# Altium footprint library ARCOM_Capacitors.PcbLib: 37 footprints (part 1 of 3)
Each footprint in its own frame and in the unit in brackets; x right, y up, seen from the top. Pads: shape width x height; smd on the part's side, far side on the other; paste and mask are expansions set on the pad; w line width, h text height; cw(c..) or ccw(c..) is an arc to the next point about the centre after c.
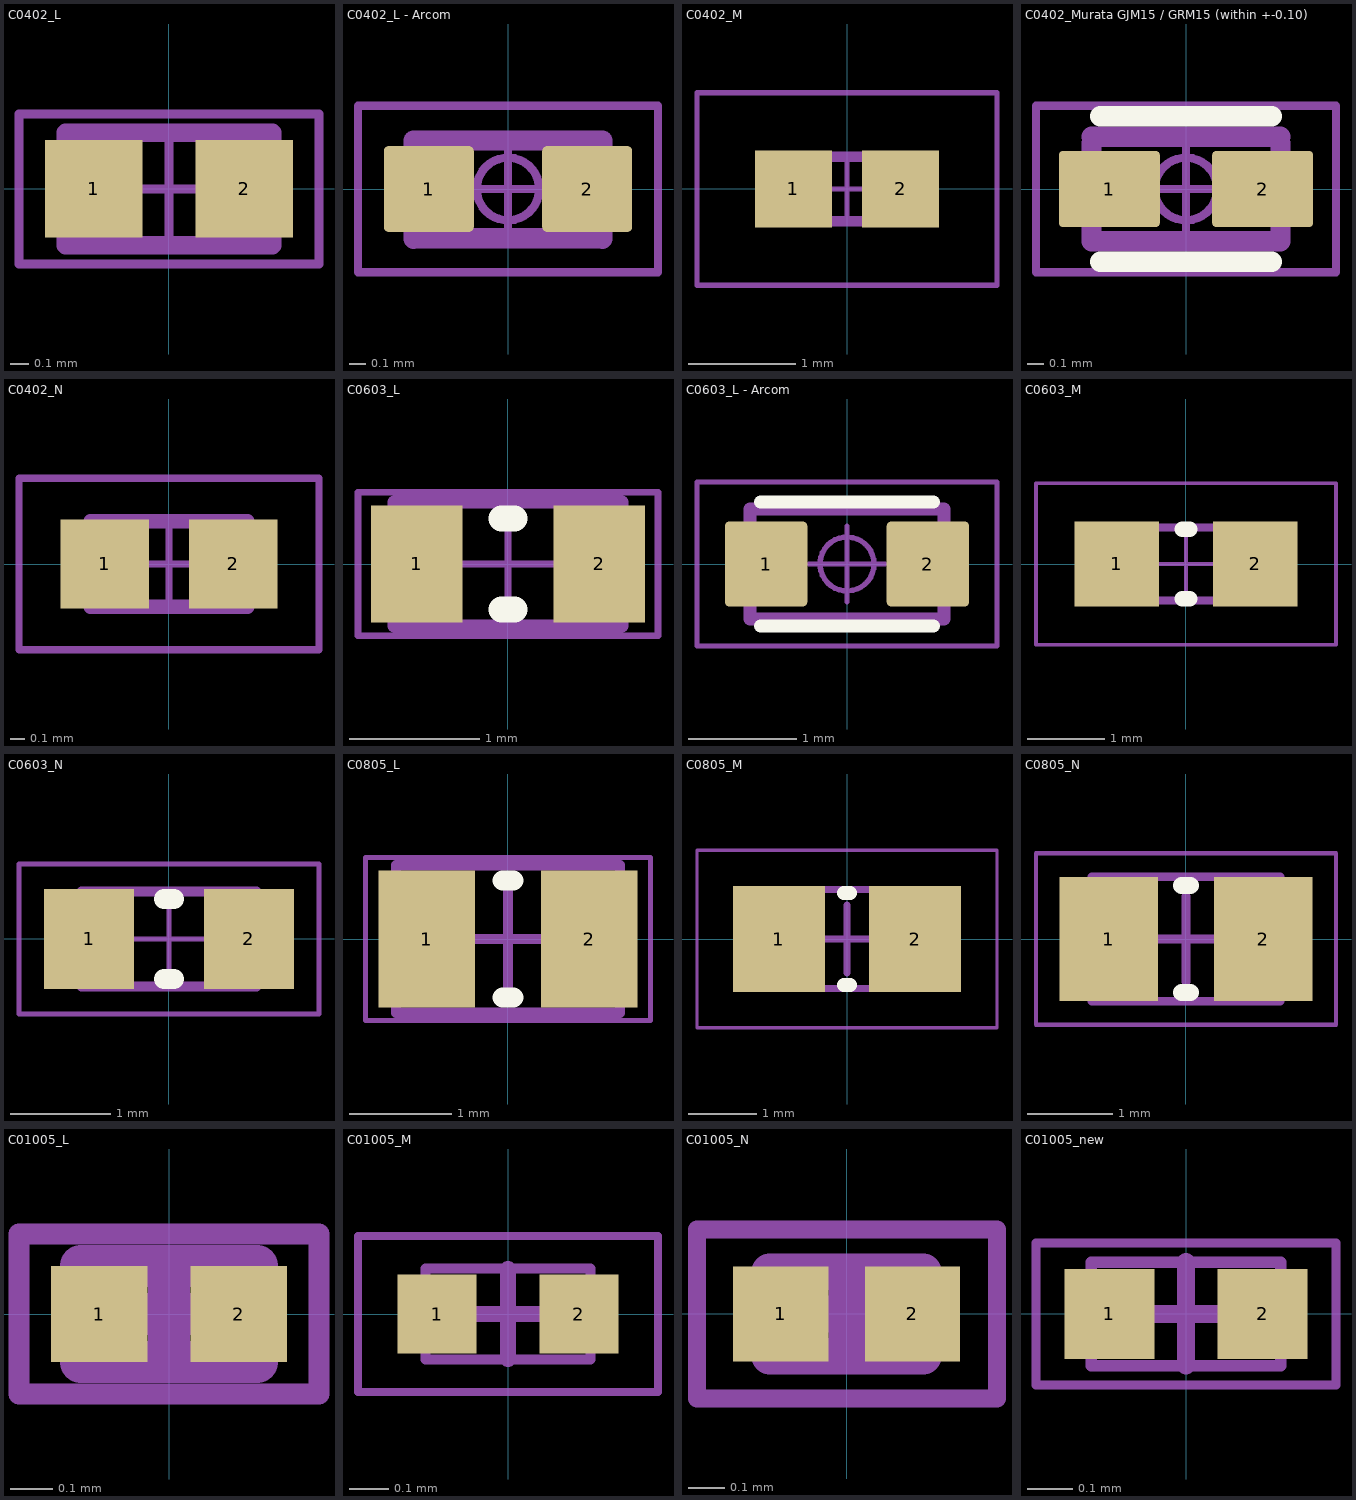
[diagram p0: the footprints below, top view; thin cyan lines are the x and y axes]

## C0402_L [mm] "Chip Capacitor, Body 1.0x0.5mm, Height 0.6mm, IPC High Density"
height 0.7
pads (2):
  rect 0.52x0.52 smd: 1(-0.4,0) 2(0.4,0)
Mechanical 13:
  lines w0.1: -0.55,-0.3 0.55,-0.3 0.55,0.3 -0.55,0.3 -0.55,-0.3
Mechanical 15:
  lines w0.05: -0.3,0 0.3,0 ; 0,-0.3 0,0.3 ; -0.8,-0.4 0.8,-0.4 0.8,0.4 -0.8,0.4 -0.8,-0.4
3D body: height 0.6, standoff 0, extent 0.3,-0.3 0.55,0.3
3D body: height 0.6, standoff 0, extent -0.55,-0.3 -0.3,0.3
3D body: height 0.6, standoff 0, extent -0.3,-0.3 0.3,0.3

## C0402_L - Arcom [mil] "Chip Capacitor, Body 1.0x0.5mm, Height 0.6mm, IPC High Density"
height 27.56
pads (2):
  rrect10% 21x20 smd: 1(-18.5,0) 2(18.5,0)
Mechanical 11:
  lines w4.72: -22.05,-11.6 -22.05,11.35 22.05,11.35 22.05,-11.6 ; -22.05,-11.5 22.05,-11.5
Mechanical 15:
  circle w1.97: c0,0 r7.31
  lines w1.97: -9.74,0 9.74,0 ; 0,-9.74 0,9.74 ; -35.04,-19.49 35.04,-19.49 35.04,19.49 -35.04,19.49 -35.04,-19.49
3D body: height 23.62, standoff 0, extent 11.75,-11.81 21.67,11.81
3D body: height 23.62, standoff 0, extent -21.67,-11.81 -11.82,11.81
3D body: height 23.62, standoff 0, extent -11.9,-11.81 11.81,11.81

## C0402_M [mm] "Chip Capacitor, Body 1.0x0.5mm, Height 0.6mm, IPC Low Density"
height 0.7
pads (2):
  rect 0.72x0.72 smd: 1(-0.5,0) 2(0.5,0)
Mechanical 13:
  lines w0.1: -0.55,-0.3 -0.55,0.3 0.55,0.3 0.55,-0.3 -0.55,-0.3
Mechanical 15:
  lines w0.05: -0.3,0 0.3,0 ; 0,-0.3 0,0.3 ; -1.4,-0.9 -1.4,0.9 1.4,0.9 1.4,-0.9 -1.4,-0.9
3D body: height 0.6, standoff 0, extent -0.3,-0.3 0.3,0.3
3D body: height 0.6, standoff 0, extent -0.55,-0.3 -0.3,0.3
3D body: height 0.6, standoff 0, extent 0.3,-0.3 0.55,0.3

## C0402_Murata GJM15 / GRM15 (within +-0.10) [mm] "Murata footprint GJM15 / GRM15 series"
height 0.7
pads (2):
  rrect10% 0.6x0.45 smd: 1(-0.455,0) 2(0.455,0)
Top Overlay:
  lines w0.12: -0.51,-0.432 0.51,-0.432 ; -0.51,0.432 0.51,0.432
Mechanical 11:
  lines w0.12: -0.56,0.273 -0.56,-0.31 0.56,-0.31 0.56,0.273 ; -0.56,0.31 0.56,0.31
Mechanical 15:
  circle w0.05: c0,0 r0.186
  lines w0.05: -0.248,0 0.248,0 ; 0,-0.248 0,0.248 ; -0.89,-0.495 0.89,-0.495 0.89,0.495 -0.89,0.495 -0.89,-0.495
3D body: height 0.6, standoff 0, extent 0.298,-0.3 0.551,0.3
3D body: height 0.6, standoff 0, extent -0.55,-0.3 -0.3,0.3
3D body: height 0.6, standoff 0, extent -0.302,-0.3 0.3,0.3

## C0402_N [mm] "Chip Capacitor, Body 1.0x0.5mm, Height 0.6mm, IPC Medium Density"
height 0.7
pads (2):
  rect 0.62x0.62 smd: 1(-0.45,0) 2(0.45,0)
Mechanical 13:
  lines w0.1: -0.55,-0.3 -0.55,0.3 0.55,0.3 0.55,-0.3 -0.55,-0.3
Mechanical 15:
  lines w0.05: -0.3,0 0.3,0 ; 0,-0.3 0,0.3 ; -1.05,-0.6 -1.05,0.6 1.05,0.6 1.05,-0.6 -1.05,-0.6
3D body: height 0.6, standoff 0, extent -0.3,-0.3 0.3,0.3
3D body: height 0.6, standoff 0, extent -0.55,-0.3 -0.3,0.3
3D body: height 0.6, standoff 0, extent 0.3,-0.3 0.55,0.3

## C0603_L [mm] "Chip Capacitor, Body 1.6x0.8mm, Height 1.0mm, IPC High Density"
height 0.9
pads (2):
  rect 0.7x0.9 smd: 1(-0.7,0) 2(0.7,0)
Top Overlay:
  lines w0.2: -0.05,-0.35 0.05,-0.35 ; -0.05,0.35 0.05,0.35
Mechanical 13:
  lines w0.1: -0.875,-0.475 -0.875,0.475 0.875,0.475 0.875,-0.475 -0.875,-0.475
Mechanical 15:
  lines w0.05: -0.475,0 0.475,0 ; 0,-0.475 0,0.475 ; -1.15,-0.55 -1.15,0.55 1.15,0.55 1.15,-0.55 -1.15,-0.55
3D body: height 1, standoff 0, extent -0.525,-0.475 0.525,0.475
3D body: height 1, standoff 0, extent -0.875,-0.475 -0.525,0.475
3D body: height 1, standoff 0, extent 0.525,-0.475 0.875,0.475

## C0603_L - Arcom [mil] "Chip Capacitor, Body 1.6x0.8mm, Height 1.0mm, IPC High Density"
height 35.43
pads (2):
  rrect10% 30x31 smd: 1(-29.5,0) 2(29.5,0)
Top Overlay:
  lines w4.72: -31.5,-22.64 31.5,-22.64 ; -31.5,22.64 31.5,22.64
Mechanical 11:
  lines w4.72: -35.43,-20.08 -35.43,20.08 35.43,20.08 35.43,-20.08 -35.43,-20.08
Mechanical 15:
  circle w1.97: c0,0 r9.84
  lines w1.97: -13.78,0 13.78,0 ; 0,-13.78 0,13.78 ; -54.72,-29.92 -54.72,29.92 54.72,29.92 54.72,-29.92 -54.72,-29.92
3D body: height 39.37, standoff 0, extent 20.67,-18.7 34.45,18.7
3D body: height 39.37, standoff 0, extent -34.45,-18.7 -20.67,18.7
3D body: height 39.37, standoff 0, extent -20.67,-18.7 20.67,18.7

## C0603_M [mm] "Chip Capacitor, Body 1.6x0.8mm, Height 1.0mm, IPC Low Density"
height 0.9
pads (2):
  rect 1.1x1.1 smd: 1(-0.9,0) 2(0.9,0)
Top Overlay:
  lines w0.2: -0.05,-0.45 0.05,-0.45 ; -0.05,0.45 0.05,0.45
Mechanical 13:
  lines w0.1: -0.875,-0.475 -0.875,0.475 0.875,0.475 0.875,-0.475 -0.875,-0.475
Mechanical 15:
  lines w0.05: -0.475,0 0.475,0 ; 0,-0.475 0,0.475 ; -1.95,-1.05 -1.95,1.05 1.95,1.05 1.95,-1.05 -1.95,-1.05
3D body: height 1, standoff 0, extent -0.525,-0.475 0.525,0.475
3D body: height 1, standoff 0, extent -0.875,-0.475 -0.525,0.475
3D body: height 1, standoff 0, extent 0.525,-0.475 0.875,0.475

## C0603_N [mm] "Chip Capacitor, Body 1.6x0.8mm, Height 1.0mm, IPC Medium Density"
height 0.9
pads (2):
  rect 0.9x1 smd: 1(-0.8,0) 2(0.8,0)
Top Overlay:
  lines w0.2: -0.05,-0.4 0.05,-0.4 ; -0.05,0.4 0.05,0.4
Mechanical 13:
  lines w0.1: -0.875,-0.475 -0.875,0.475 0.875,0.475 0.875,-0.475 -0.875,-0.475
Mechanical 15:
  lines w0.05: -0.475,0 0.475,0 ; 0,-0.475 0,0.475 ; -1.5,-0.75 -1.5,0.75 1.5,0.75 1.5,-0.75 -1.5,-0.75
3D body: height 1, standoff 0, extent -0.525,-0.475 0.525,0.475
3D body: height 1, standoff 0, extent -0.875,-0.475 -0.525,0.475
3D body: height 1, standoff 0, extent 0.525,-0.475 0.875,0.475

## C0805_L [mm] "Chip Capacitor, Body 2.0x1.2mm, Height 1.0mm, IPC High Density"
height 1.53
pads (2):
  rect 0.95x1.35 smd: 1(-0.8,0) 2(0.8,0)
Top Overlay:
  lines w0.2: -0.05,-0.575 0.05,-0.575 ; -0.05,0.575 0.05,0.575
Mechanical 13:
  lines w0.1: -1.1,-0.725 -1.1,0.725 1.1,0.725 1.1,-0.725 -1.1,-0.725
Mechanical 15:
  lines w0.05: -1.4,-0.8 -1.4,0.8 1.4,0.8 1.4,-0.8 -1.4,-0.8
  lines w0.1: -0.5,0 0.5,0 ; 0,-0.5 0,0.5
3D body: height 1, standoff 0, extent -0.6,-0.725 0.6,0.725
3D body: height 1, standoff 0, extent -1.1,-0.725 -0.6,0.725
3D body: height 1, standoff 0, extent 0.6,-0.725 1.1,0.725

## C0805_M [mm] "Chip Capacitor, Body 2.0x1.2mm, Height 1.0mm, IPC Low Density"
height 1.53
pads (2):
  rect 1.35x1.55 smd: 1(-1,0) 2(1,0)
Top Overlay:
  lines w0.2: -0.05,-0.675 0.05,-0.675 ; -0.05,0.675 0.05,0.675
Mechanical 13:
  lines w0.1: -1.1,-0.725 -1.1,0.725 1.1,0.725 1.1,-0.725 -1.1,-0.725
Mechanical 15:
  lines w0.05: -2.2,-1.3 -2.2,1.3 2.2,1.3 2.2,-1.3 -2.2,-1.3
  lines w0.1: -0.5,0 0.5,0 ; 0,-0.5 0,0.5
3D body: height 1, standoff 0, extent -0.6,-0.725 0.6,0.725
3D body: height 1, standoff 0, extent -1.1,-0.725 -0.6,0.725
3D body: height 1, standoff 0, extent 0.6,-0.725 1.1,0.725

## C0805_N [mm] "Chip Capacitor, Body 2.0x1.2mm, Height 1.0mm, IPC Medium Density"
height 1.53
pads (2):
  rect 1.15x1.45 smd: 1(-0.9,0) 2(0.9,0)
Top Overlay:
  lines w0.2: -0.05,-0.625 0.05,-0.625 ; -0.05,0.625 0.05,0.625
Mechanical 13:
  lines w0.1: -1.1,-0.725 1.1,-0.725 1.1,0.725 -1.1,0.725 -1.1,-0.725
Mechanical 15:
  lines w0.05: -1.75,-1 1.75,-1 1.75,1 -1.75,1 -1.75,-1
  lines w0.1: -0.5,0 0.5,0 ; 0,-0.5 0,0.5
3D body: height 1, standoff 0, extent 0.6,-0.725 1.1,0.725
3D body: height 1, standoff 0, extent -1.1,-0.725 -0.6,0.725
3D body: height 1, standoff 0, extent -0.6,-0.725 0.6,0.725

## C01005_L [mm] "Chip Capacitor, 2-Leads, Body 0,40x0,20mm, IPC High Density"
height 0.15
pads (2):
  rect 0.231x0.23 smd mask+0.05: 1(-0.166,0) 2(0.166,0)
Mechanical 13:
  lines w0.1: -0.21,-0.115 0.21,-0.115 0.21,0.115 -0.21,0.115 -0.21,-0.115
Mechanical 15:
  lines w0.05: -0.358,-0.191 0.358,-0.191 0.358,0.191 -0.358,0.191 -0.358,-0.191
  lines w0.1: -0.115,0 0.115,0 ; 0,-0.115 0,0.115
3D body: height 0.15, standoff 0, extent 0.11,-0.115 0.21,0.115
3D body: height 0.15, standoff 0, extent -0.21,-0.115 -0.11,0.115
3D body: height 0.15, standoff 0, extent -0.11,-0.115 0.11,0.115

## C01005_M [mm] "Chip Capacitor, 2-Leads, Body 0,40x0,20mm, IPC Low Density"
height 0.15
pads (2):
  rect 0.2x0.2 smd mask+0.1: 1(-0.18,0) 2(0.18,0)
Mechanical 13:
  lines w0.025: -0.21,-0.115 0.21,-0.115 0.21,0.115 -0.21,0.115 -0.21,-0.115
Mechanical 15:
  lines w0.02: -0.381,-0.198 0.381,-0.198 0.381,0.198 -0.381,0.198 -0.381,-0.198
  lines w0.04: -0.115,0 0.115,0 ; 0,-0.115 0,0.115
3D body: height 0.15, standoff 0, extent 0.11,-0.115 0.21,0.115
3D body: height 0.15, standoff 0, extent -0.21,-0.115 -0.11,0.115
3D body: height 0.15, standoff 0, extent -0.11,-0.115 0.11,0.115

## C01005_N [mm] "Chip Capacitor, 2-Leads, Body 0,40x0,20mm, IPC Medium Density"
height 0.15
pads (2):
  rect 0.26x0.26 smd mask+0.075: 1(-0.18,0) 2(0.18,0)
Mechanical 13:
  lines w0.1: -0.21,-0.115 0.21,-0.115 0.21,0.115 -0.21,0.115 -0.21,-0.115
Mechanical 15:
  lines w0.05: -0.409,-0.231 0.411,-0.231 0.411,0.231 -0.409,0.231 -0.409,-0.231
  lines w0.1: -0.115,0 0.115,0 ; 0,-0.115 0,0.115
3D body: height 0.15, standoff 0, extent 0.11,-0.115 0.21,0.115
3D body: height 0.15, standoff 0, extent -0.21,-0.115 -0.11,0.115
3D body: height 0.15, standoff 0, extent -0.11,-0.115 0.11,0.115

## C01005_new [mm] "Chip Capacitor, 2-Leads, Body 0,40x0,20mm, IPC High Density"
height 0.15
pads (2):
  rect 0.2x0.2 smd mask+0.05: 1(-0.17,0) 2(0.17,0)
Mechanical 13:
  lines w0.025: -0.21,-0.115 0.21,-0.115 0.21,0.115 -0.21,0.115 -0.21,-0.115
Mechanical 15:
  lines w0.02: -0.333,-0.157 0.333,-0.157 0.333,0.157 -0.333,0.157 -0.333,-0.157
  lines w0.04: -0.115,0 0.115,0 ; 0,-0.115 0,0.115
3D body: height 0.15, standoff 0, extent 0.11,-0.115 0.21,0.115
3D body: height 0.15, standoff 0, extent -0.21,-0.115 -0.11,0.115
3D body: height 0.15, standoff 0, extent -0.11,-0.115 0.11,0.115